# Altium footprint library digital_chips.PcbLib: 5 footprints
Each footprint in its own frame and in the unit in brackets; x right, y up, seen from the top. Pads: shape width x height; smd on the part's side, far side on the other; paste and mask are expansions set on the pad; w line width, h text height; cw(c..) or ccw(c..) is an arc to the next point about the centre after c.
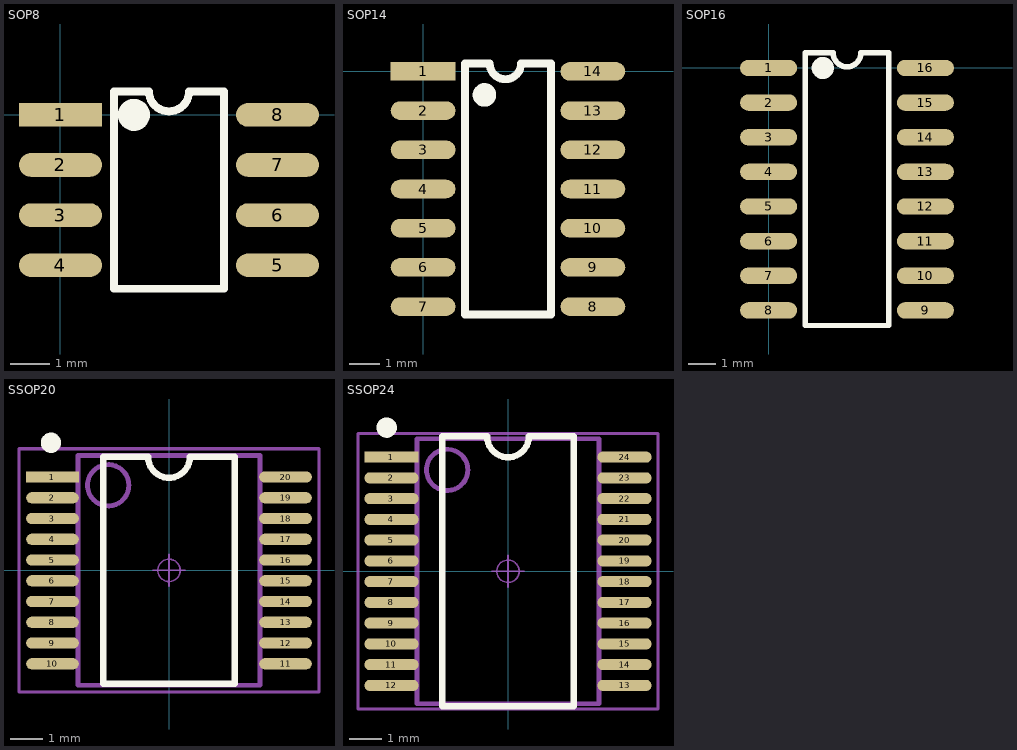
[diagram p0: the footprints below, top view; thin cyan lines are the x and y axes]

## SOP8 [mm]
pads (8):
  rect 2.1x0.6 smd: 1(0,0)
  oval 2.1x0.6 smd: 2(0,-1.27) 3(0,-2.54) 4(0,-3.81) 5(5.5,-3.81) 6(5.5,-2.54) 7(5.5,-1.27) 8(5.5,0)
Top Overlay:
  circle w0.5: c1.861,0 r0.155
  lines w0.2: 1.353,0.595 1.353,-4.405 4.147,-4.405 4.147,0.595
  lines w0.203: 1.353,0.595 2.242,0.595 ccw(c2.75,0.595) 2.75,0.087 ccw(c2.75,0.595) 3.258,0.595 4.147,0.595
3D body "SOP8.STEP": height 1.9, standoff 0, extent -0.209,-4.405 5.797,0.595

## SOP14 [mm]
pads (14):
  rect 2.1x0.6 smd: 1(0,0)
  oval 2.1x0.6 smd: 2(0,-1.27) 3(0,-2.54) 4(0,-3.81) 5(0,-5.08) 6(0,-6.35) 7(0,-7.62) 8(5.5,-7.62) 9(5.5,-6.35) 10(5.5,-5.08) 11(5.5,-3.81) 12(5.5,-2.54) 13(5.5,-1.27) 14(5.5,0)
Top Overlay:
  circle w0.508: c1.988,-0.762 r0.127
  lines w0.254: 1.353,-7.874 1.353,0.254 2.157,0.254 ccw(c2.665,0.254) 2.665,-0.254 ccw(c2.665,0.254) 3.173,0.254 4.147,0.254 4.147,-7.874 1.353,-7.874
3D body "SOP14.STEP": height 1.9, standoff 0, extent -0.254,-8.16 5.752,0.54

## SOP16 [mm]
height 1.75
pads (16):
  oval 2.1x0.6 smd: 1(0,0) 2(0,-1.27) 3(0,-2.54) 4(0,-3.81) 5(0,-5.08) 6(0,-6.35) 7(0,-7.62) 8(0,-8.89) 9(5.75,-8.89) 10(5.75,-7.62) 11(5.75,-6.35) 12(5.75,-5.08) 13(5.75,-3.81) 14(5.75,-2.54) 15(5.75,-1.27) 16(5.75,0)
Top Overlay:
  circle w0.5: c1.986,0 r0.155
  lines w0.2: 1.351,0.555 1.351,-9.445 4.399,-9.445 4.399,0.555
  lines w0.203: 1.351,0.555 2.367,0.555 ccw(c2.875,0.555) 2.875,0.047 ccw(c2.875,0.555) 3.383,0.555 4.399,0.555
3D body "SOP16.STEP": height 1.9, standoff 0, extent -0.037,-9.445 5.969,0.555
3D body: height 0.25, standoff 0, extent 1.905,-3.937 1.905,-3.937

## SSOP20 [mm] "7.2*7.8*1.6（长宽高）"
pads (20):
  rect 1.65x0.35 smd: 1(-3.65,2.925)
  oval 1.65x0.35 smd: 2(-3.65,2.275) 3(-3.65,1.625) 4(-3.65,0.975) 5(-3.65,0.325) 6(-3.65,-0.325) 7(-3.65,-0.975) 8(-3.65,-1.625) 9(-3.65,-2.275) 10(-3.65,-2.925) 11(3.65,-2.925) 12(3.65,-2.275) 13(3.65,-1.625) 14(3.65,-0.975) 15(3.65,-0.325) 16(3.65,0.325) 17(3.65,0.975) 18(3.65,1.625) 19(3.65,2.275) 20(3.65,2.925)
Top Overlay:
  circle w0.381: c-3.7,4 r0.127
  lines w0.2: -2.065,-3.556 2.065,-3.556 2.065,3.556 0.655,3.556 cw(c0,3.556) -0.655,3.556 -2.065,3.556 -2.065,-3.556
Mechanical 13:
  circle w0.15: c-1.905,2.667 r0.648
  lines w0.15: -2.85,-3.6 -2.85,3.6 2.85,3.6 2.85,-3.6 -2.85,-3.6
Mechanical 15:
  circle w0.05: c0,0 r0.35
  lines w0.05: -0.5,0 0.5,0 ; 0,-0.5 0,0.5
  lines w0.1: -4.699,-3.81 4.699,-3.81 4.699,3.81 -4.699,3.81 -4.699,-3.81
3D body "SSOP20.STEP": height 1.65, standoff -0.03, extent -3.852,-3.6 3.852,3.6

## SSOP24 [mm] "8.3*7.8*1.6（长宽高）"
pads (24):
  rect 1.7x0.35 smd: 1(-3.65,3.575)
  oval 1.7x0.35 smd: 2(-3.65,2.925) 3(-3.65,2.275) 4(-3.65,1.625) 5(-3.65,0.975) 6(-3.65,0.325) 7(-3.65,-0.325) 8(-3.65,-0.975) 9(-3.65,-1.625) 10(-3.65,-2.275) 11(-3.65,-2.925) 12(-3.65,-3.575) 13(3.65,-3.575) 14(3.65,-2.925) 15(3.65,-2.275) 16(3.65,-1.625) 17(3.65,-0.975) 18(3.65,-0.325) 19(3.65,0.325) 20(3.65,0.975) 21(3.65,1.625) 22(3.65,2.275) 23(3.65,2.925) 24(3.65,3.575)
Top Overlay:
  circle w0.381: c-3.8,4.5 r0.127
  lines w0.2: -2.065,-4.225 -2.065,4.225 -0.655,4.225 ccw(c0,4.225) 0.655,4.225 2.065,4.225 2.065,-4.225 -2.065,-4.225
Mechanical 13:
  circle w0.15: c-1.905,3.175 r0.648
  lines w0.15: -2.85,-4.15 2.85,-4.15 2.85,4.15 -2.85,4.15 -2.85,-4.15
Mechanical 15:
  circle w0.05: c0,0 r0.35
  lines w0.05: -0.5,0 0.5,0 ; 0,-0.5 0,0.5
  lines w0.1: -4.699,-4.318 4.699,-4.318 4.699,4.318 -4.699,4.318 -4.699,-4.318
3D body "SSOP24.STEP": height 1.65, standoff -0.03, extent -3.852,-4.15 3.852,4.15